# EAGLE library part AP9211SA-AK-HAC-7 (library IoTMakers)
Battery Protection Li-Ion Packs 2.4V to 4.25V 6-Pin UDFN T/R
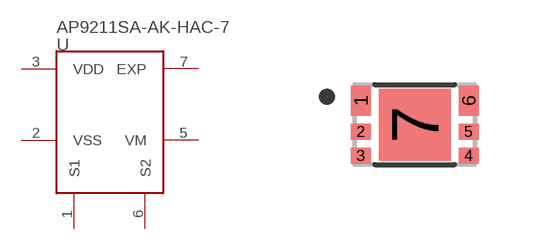
[diagram p20: symbol with the pads of DFN200X300X60-7N; footprint DFN200X300X60-7N]

Designator prefix U

## AP9211SA-AK-HAC-7 (AVAILABILITY: Good; DESCRIPTION: Battery Protection Li-Ion Packs 2.4V to 4.25V 6-Pin UDFN T/R; MF: Diodes Inc.; MP: AP9211SA-AK-HAC-7; PACKAGE: UDFN-6 Diodes Inc.; PRICE: 0.27 USD)  [DFN200X300X60-7N]
1  S1  out
2  VSS  pwr
3  VDD  pwr
5  VM  in
6  S2  out
7  EXP  pwr

## Footprint DFN200X300X60-7N (pad centres in mm)
smd 0.5 x 0.75: 1 -1.35,0.6; 6 1.35,0.6
smd 0.5 x 0.4: 2 -1.35,-0.175; 3 -1.35,-0.775; 4 1.35,-0.775; 5 1.35,-0.175
smd 1.8 x 1.8: 7 0,0